# EAGLE library part 62501621721 (library Wurth_Elektronik_Electromechanic_Wire_to_Board_Connectors_rev16a)
WR-BHD 2.00mm Male Angled Box Header, 16 Pins=>Code : Con_WTB_BHD_2.00_Male_THT_62501621721 <http://katalog.we-online.de/media/thumbs2/eican/thb_Con_WTB_BHD_2.00_Male_THT_6250xx21721_pf2.jpg> Details see: http://katalog.we-online.de/en/em/625_0xx_217_21 Created 2014-06-05, Karrer Zheng 2014 (C) Würth Elektronik
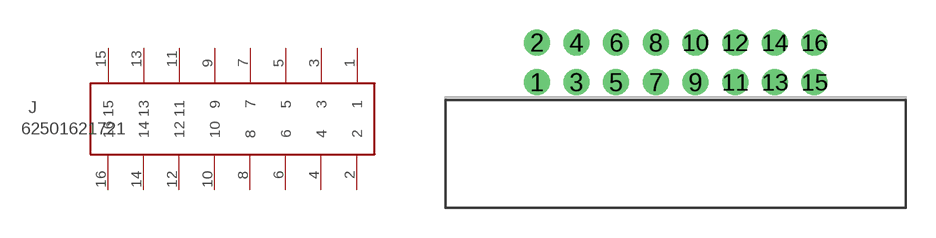
[diagram p223: symbol with the pads of 62501621721; footprint 62501621721]

Designator prefix J

## 62501621721  [62501621721]
1  1  pas
2  2  pas
3  3  pas
4  4  pas
5  5  pas
6  6  pas
7  7  pas
8  8  pas
9  9  pas
10  10  pas
11  11  pas
12  12  pas
13  13  pas
14  14  pas
15  15  pas
16  16  pas

## Footprint 62501621721 (pad centres in mm)
WR-BHD 2.00mm Male Angled Box Header, 16 pins
drill 0.8: 1 -7,-1; 2 -7,1; 3 -5,-1; 4 -5,1; 5 -3,-1; 6 -3,1; 7 -1,-1; 8 -1,1; 9 1,-1; 10 1,1; 11 3,-1; 12 3,1; 13 5,-1; 14 5,1; 15 7,-1; 16 7,1